# EAGLE library part TFTLCD (library gen433)
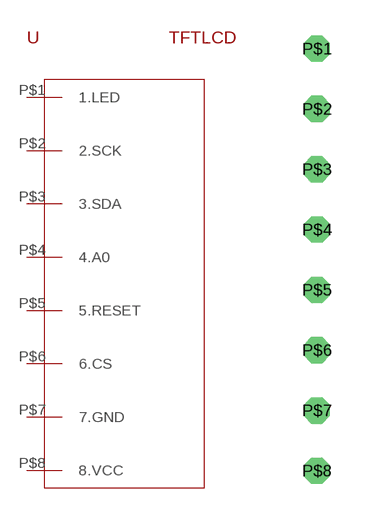
[diagram p4: symbol with the pads of TFTLCD; footprint TFTLCD]

Designator prefix -

## TFTLCD  [TFTLCD]
P$1  1.LED
P$2  2.SCK
P$3  3.SDA
P$4  4.A0
P$5  5.RESET
P$6  6.CS
P$7  7.GND
P$8  8.VCC

## Footprint TFTLCD (pad centres in mm)
drill 0.6 octagon: P$1 -5.08,5.08; P$2 -5.08,2.54; P$3 -5.08,0; P$4 -5.08,-2.54; P$5 -5.08,-5.08; P$6 -5.08,-7.62; P$7 -5.08,-10.16; P$8 -5.08,-12.7